# EAGLE library part SEI-110-02* (library NewSDR)
10-pin Samtec One Piece Interface Connector
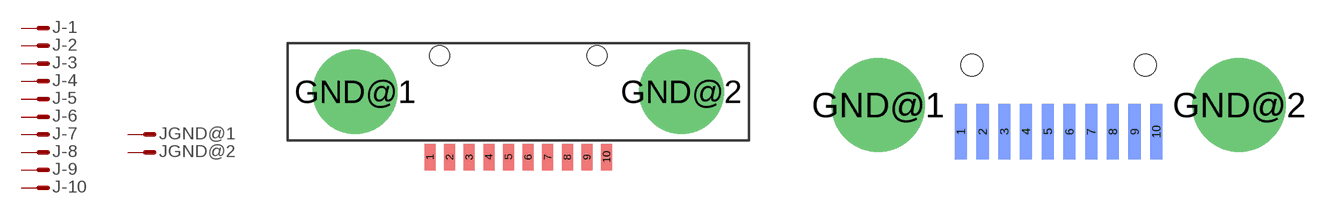
[diagram p191: symbol with the pads of SEI_CONN; footprints SEI_CONN, SEI_PCB]

Designator prefix J; gates -1=M -2=M -3=M -4=M -5=M -6=M -7=M -8=M -9=M -10=M GND@1=M GND@2=M

## SEI-110-02_CON  [SEI_CONN]
1  -1:M  pas
2  -2:M  pas
3  -3:M  pas
4  -4:M  pas
5  -5:M  pas
6  -6:M  pas
7  -7:M  pas
8  -8:M  pas
9  -9:M  pas
10  -10:M  pas
GND@1  GND@1:M  pas
GND@2  GND@2:M  pas

## SEI-110-02_PCB  [SEI_PCB]
Pads as for SEI_CONN

## SEI-110-02_GPS  [SEI_CONN_OUTLINE]
Pads as for SEI_CONN

## Footprint SEI_CONN (pad centres in mm)
10-pin Samtec One Piece Interface Connector with Threaded Inserts
smd 0.559 x 1.346: 1 -4.5,-3.328; 2 -3.5,-3.328; 3 -2.5,-3.328; 4 -1.5,-3.328; 5 -0.5,-3.328; 6 0.5,-3.328; 7 1.5,-3.328; 8 2.5,-3.328; 9 3.5,-3.328; 10 4.5,-3.328
drill 2.54 pad 4.318: GND@1 -8.31,0; GND@2 8.31,0
hole 1.016 at 4,1.841
hole 1.016 at -4,1.841

## Footprint SEI_PCB (pad centres in mm)
10-pin Samtec One Piece Interface - PCB Layout for mating board
smd 0.559 x 2.54 bottom: 1 -4.5,-1.238; 2 -3.5,-1.238; 3 -2.5,-1.238; 4 -1.5,-1.238; 5 -0.5,-1.238; 6 0.5,-1.238; 7 1.5,-1.238; 8 2.5,-1.238; 9 3.5,-1.238; 10 4.5,-1.238
drill 2.54 pad 4.318: GND@1 -8.31,0; GND@2 8.31,0
hole 1.016 at 4,1.841
hole 1.016 at -4,1.841

## Footprint SEI_CONN_OUTLINE (pad centres in mm)
smd 0.559 x 1.346: 1 -4.5,-3.328; 2 -3.5,-3.328; 3 -2.5,-3.328; 4 -1.5,-3.328; 5 -0.5,-3.328; 6 0.5,-3.328; 7 1.5,-3.328; 8 2.5,-3.328; 9 3.5,-3.328; 10 4.5,-3.328
drill 2.54 pad 4.318: GND@1 -8.31,0; GND@2 8.31,0
hole 1.016 at 4,1.841
hole 1.016 at -4,1.841